# EAGLE library part FTDI-TTL-232R-3.3 (library ftdi)
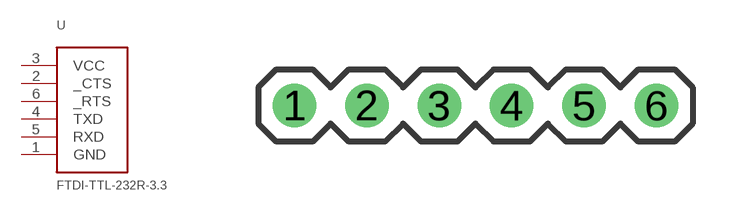
[diagram p0: symbol with the pads of 1X06; footprint 1X06]

Designator prefix -

## FTDI-TTL-232R-3.3  [1X06]
1  GND  pwr
2  _CTS  in
3  VCC  pwr
4  TXD  out
5  RXD  in
6  _RTS  out

## Footprint 1X06 (pad centres in mm)
drill 1.016: 1 0,0; 2 2.54,0; 3 5.08,0; 4 7.62,0; 5 10.16,0; 6 12.7,0